# EAGLE library part DUT_QFN4X4 (library qfn20)
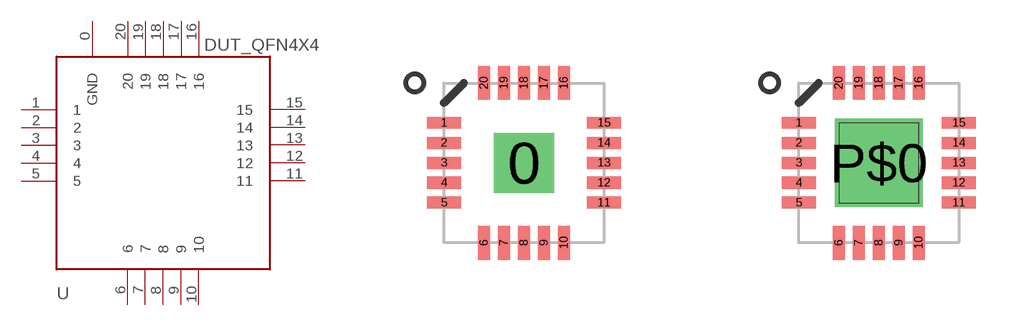
[diagram p0: symbol with the pads of QFN20_4X4_GND; footprints QFN20_4X4_GND, QFN20_4X4_WINDOW]

Designator prefix U

## DUT_QFN4X4GND  [QFN20_4X4_GND]
0  GND
1  1
2  2
3  3
4  4
5  5
6  6
7  7
8  8
9  9
10  10
11  11
12  12
13  13
14  14
15  15
16  16
17  17
18  18
19  19
20  20

## DUT_QFN4X4WIN  [QFN20_4X4_WINDOW]
1  1
2  2
3  3
4  4
5  5
6  6
7  7
8  8
9  9
10  10
11  11
12  12
13  13
14  14
15  15
16  16
17  17
18  18
19  19
20  20
P$0  GND

## Footprint QFN20_4X4_GND (pad centres in mm)
drill 0.8 pad 1.5 square: 0 0,0
smd 0.85 x 0.3: 1 -2,1; 2 -2,0.5; 3 -2,0; 4 -2,-0.5; 5 -2,-1; 11 2,-1; 12 2,-0.5; 13 2,0; 14 2,0.5; 15 2,1
smd 0.3 x 0.85: 6 -1,-2; 7 -0.5,-2; 8 0,-2; 9 0.5,-2; 10 1,-2; 16 1,2; 17 0.5,2; 18 0,2; 19 -0.5,2; 20 -1,2

## Footprint QFN20_4X4_WINDOW (pad centres in mm)
smd 0.85 x 0.3: 1 -2,1; 2 -2,0.5; 3 -2,0; 4 -2,-0.5; 5 -2,-1; 11 2,-1; 12 2,-0.5; 13 2,0; 14 2,0.5; 15 2,1
smd 0.3 x 0.85: 6 -1,-2; 7 -0.5,-2; 8 0,-2; 9 0.5,-2; 10 1,-2; 16 1,2; 17 0.5,2; 18 0,2; 19 -0.5,2; 20 -1,2
drill 0.8 pad 2.2 square: P$0 0,0